# Altium schematic symbol library HDR5_F.SchLib: 1 symbol
Pins are listed as number, name and electrical type; pins without a type are passive.

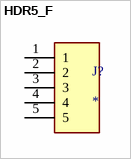
[diagram p0: symbol HDR5_F]

## HDR5_F
designator J?
MP: HTSW-105-14-L-S; Value: *; Package: None; Price: None; Availability: Unavailable
footprint SAMTEC_HTSW-105-14-L-S
pins: 1, 2, 3, 4, 5